# EAGLE library part 74LVC1G157 (library IC)
2 Input Mux (Digital)
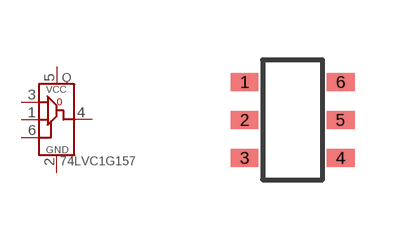
[diagram p19: symbol with the pads of SOT457; footprint SOT457]

Designator prefix Q

## 74LVC1G157 (MPN: 74LVC1G157GV,125)  [SOT457]
1  I1
2  GND
3  I0
4  O
5  VCC
6  S

## Footprint SOT457 (pad centres in mm)
Also SC74 and 6-TSOP
smd 0.7 x 0.45: 1 -1.2,0.95; 2 -1.2,0; 3 -1.2,-0.95; 4 1.2,-0.95; 5 1.2,0; 6 1.2,0.95